# Altium footprint library LEAKCAM.PcbLib: 37 footprints (part 3 of 3)
Each footprint in its own frame and in the unit in brackets; x right, y up, seen from the top. Pads: shape width x height; smd on the part's side, far side on the other; paste and mask are expansions set on the pad; w line width, h text height; cw(c..) or ccw(c..) is an arc to the next point about the centre after c.
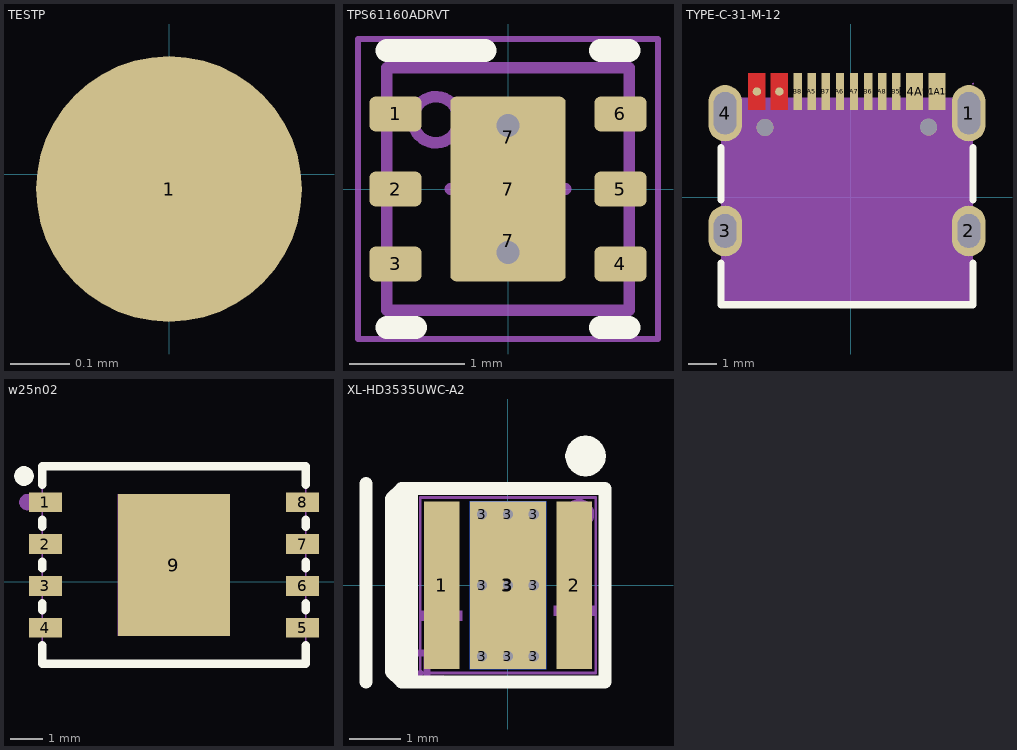
[diagram p2: the footprints below, top view; thin cyan lines are the x and y axes]

## TESTP [mm]
pads (1):
  round 0.45 smd mask+0: 1(0,-0.025)

## TPS61160ADRVT [mm]
pads (9):
  rrect33% 0.45x0.3 smd: 1(-0.975,0.65) 2(-0.975,0) 3(-0.975,-0.65) 4(0.975,-0.65) 5(0.975,0) 6(0.975,0.65)
  rrect50% 1x0.7 on Top Paste: 7(0,-0.45) 7(0,0.45)
  rrect10% 1x1.6 smd paste-0.5: 7(0,0)
via 0,0.55 diameter 0.35 hole 0.2
via 0,-0.55 diameter 0.35 hole 0.2
Top Overlay:
  lines w0.2: -1.05,-1.2 -0.8,-1.2 ; -1.05,1.2 -0.2,1.2 ; 0.8,-1.2 1.05,-1.2 ; 0.8,1.2 1.05,1.2
Top 3D Body:
  circle w0.1: c-0.625,0.6 r0.2
  lines w0.1: -1.05,-1.05 1.05,-1.05 1.05,1.05 -1.05,1.05 -1.05,-1.05
Mechanical 15:
  lines w0.05: -1.3,-1.3 1.3,-1.3 1.3,1.3 -1.3,1.3 -1.3,-1.3
  lines w0.1: -0.5,0 0.5,0 ; 0,-0.5 0,0.5
3D body "TPS61160ADRVT.step": height 0.81, standoff 0, extent -0.966,-0.994 1.054,1.006

## TYPE-C-31-M-12 [mil]
pads (18):
  oval 47.2x78.7 hole 31.5 slot 59.1 at 90 deg paste-99999 mask+2: 1(165.1,117.7) 4(-175.5,117.7)
  oval 47.2x70.9 hole 31.5 slot 47.2 at 90 deg paste-99999 mask+2: 2(165.1,-46.9) 3(-175.5,-46.9)
  round 11.8 smd: A1B12(-131.2,148) A4B9(-99.7,148)
  rect 11.8x51.2 smd paste-3937 mask+2: A5(-54.4,148) A6(-15,148) A7(4.6,148) A8(44,148) B5(63.7,148) B6(24.3,148) B7(-34.7,148) B8(-74.1,148)
  rect 23.6x51.2 smd paste-3937 mask+2: B1A12(120.8,148) B4A9(89.3,148)
  round 23.62 hole 23.62 unplated: HOLE(-119.73,97.79) HOLE(108.92,98.2)
Top Layer:
  region: -119.4,122.4 -119.4,173.6 -131.2,173.6 -131.2,173.5 -143,173.5 -143,122.4 -131.2,122.4
  region: -87.9,122.4 -87.9,173.5 -99.7,173.5 -111.5,173.5 -111.5,122.4 -99.7,122.4
Top Overlay:
  lines w10: -181.1,-91.7 -181.1,-150 170.8,-150 170.8,-91.7 ; -181.1,-3.6 -181.1,69.7 ; 170.8,-3.6 170.8,69.8
Top Paste:
  drawing of 16 lines, arcs and shapes, not listed
Mechanical 9:
  region: -181.2,-150 -181.2,139.4 170.8,139.4 170.8,-150
Mechanical 11:
  region: 172.2,159.1 171.8,158.2 171,157.9 170.1,158.2 169.8,159.1 170.1,159.9 171,160.2 171.8,159.9
Mechanical 12:
  region: -181.4,-31.1 -169.6,-31.1 -169.6,-62.6 -181.4,-62.6
  region: 159.2,-31.1 171,-31.1 171,-62.6 159.2,-62.6
  region: 159.2,139.4 171,139.4 171,96.1 159.2,96.1
  region: -181.4,139.4 -169.6,139.4 -169.6,96.1 -181.4,96.1
  region: 59.8,159.1 67.6,159.1 67.6,131.5 59.8,131.5
  region: 40.1,159.1 47.9,159.1 47.9,131.5 40.1,131.5
  region: 20.4,159.1 28.3,159.1 28.3,131.5 20.4,131.5
  region: 0.7,159.1 8.6,159.1 8.6,131.5 0.7,131.5
  region: -19,159.1 -11.1,159.1 -11.1,131.5 -19,131.5
  region: -38.7,159.1 -30.8,159.1 -30.8,131.5 -38.7,131.5
  region: -58.3,159.1 -50.5,159.1 -50.5,131.5 -58.3,131.5
  region: -78,159.1 -70.2,159.1 -70.2,131.5 -78,131.5
  region: -139.1,159.1 -123.3,159.1 -123.3,131.5 -139.1,131.5
  region: -107.6,159.1 -91.8,159.1 -91.8,131.5 -107.6,131.5
  region: 81.4,159.1 97.2,159.1 97.2,131.5 81.4,131.5
3D body "TYPE-C-31-M-12.step": height 127.99, standoff -33.46, extent -180.98,-147.36 170.98,163.66

## w25n02 [mil]
pads (9):
  rect 39.4x23.6 smd paste+0 mask+2: 1(-417.1,95) 2(-417.1,45) 3(-417.1,-5) 4(-417.1,-55) 5(-110,-55) 6(-110,-5) 7(-110,45) 8(-110,95)
  rect 133.9x169.3 smd paste-12 mask-2: 9(-263.6,20)
Top Overlay:
  lines w10: -421,-75.9 -421,-98.1 -106.1,-98.1 -106.1,-75.9 ; -421,-34.1 -421,-25.9 ; -421,15.9 -421,24.1 ; -421,65.9 -421,74.1 ; -421,115.9 -421,138.1 -108,138.1 ; -106.1,-34.1 -106.1,-25.9 ; -106.1,15.9 -106.1,24.1 ; -106.1,65.9 -106.1,74.1 ; -106.1,115.9 -106.1,138.1
  lines w11.8: -448.6,126.3 -448.2,128.3 -447.2,130.1 -445.6,131.4 -443.7,132.1 -441.7,132.1 -439.7,131.4 -438.2,130.1 -437.1,128.3 -436.8,126.3 -437.1,124.3 -438.2,122.5 -439.7,121.2 -441.7,120.5 -443.7,120.5 -445.6,121.2 -447.2,122.5 -448.2,124.3 -448.6,126.3
Mechanical 2:
  lines w10: -443.6,95 -443.2,96.9 -442.1,98.5 -440.5,99.6 -438.6,100 -436.6,99.6 -435,98.5 -433.9,96.9 -433.6,95 -433.9,93.1 -435,91.5 -436.6,90.4 -438.6,90 -440.5,90.4 -442.1,91.5 -443.2,93.1 -443.6,95
Mechanical 6:
  lines w2: -421,-98.1 -106.1,-98.1 -106.1,138.1 -421,138.1 -421,-98.1
Mechanical 8:
  region: -418.7,138.1 -419.1,136.8 -420.1,136 -421.4,135.8 -422.6,136.3 -423.3,137.5 -423.3,138.8 -422.6,139.9 -421.4,140.5 -420.1,140.3 -419.1,139.4
Mechanical 9:
  region: -330.5,-64.6 -330.5,104.7 -196.6,104.7 -196.6,-64.6
  region: -421,-12.9 -421,2.9 -401.4,2.9 -401.4,-12.9
  region: -421,37.1 -421,52.9 -401.4,52.9 -401.4,37.1
  region: -421,87.1 -421,102.9 -401.4,102.9 -401.4,87.1
  region: -421,-62.9 -421,-47.1 -401.4,-47.1 -401.4,-62.9
  region: -106.1,102.9 -106.1,87.1 -125.8,87.1 -125.8,102.9
  region: -106.1,-47.1 -106.1,-62.9 -125.8,-62.9 -125.8,-47.1
  region: -106.1,2.9 -106.1,-12.9 -125.8,-12.9 -125.8,2.9
  region: -106.1,52.9 -106.1,37.1 -125.8,37.1 -125.8,52.9
3D body "w25n02.step": height 28.78, standoff -0.79, extent -422.87,-98.11 -107.13,138.11

## XL-HD3535UWC-A2 [mm]
pads (13):
  rect 0.701x3.299 smd: 1(-1.298,0) 2(1.3,0)
  round 0.35 hole 0.2: 3(-0.508,-1.397) 3(-0.508,0) 3(-0.508,1.397) 3(0,-1.397) 3(0,0) 3(0,1.397) 3(0.508,-1.397) 3(0.508,0) 3(0.508,1.397)
  rect 1.501x3.299 smd: 3(0,0)
  rect 1.501x3.299 smd far side: 3(0,0)
Top Overlay:
  region: -1.895,1.9 -2.093,1.9 -2.294,1.699 -2.294,-1.6 -2.294,-1.699 -2.093,-1.9 -1.895,-1.9
  lines w0.254: -2.794,-1.9 -2.794,1.999 ; -1.895,-1.9 -2.093,-1.9 -2.294,-1.699 -2.294,1.699 -2.093,1.9 -1.895,1.9 ; -1.9,-1.905 -1.9,1.905 1.91,1.905 1.91,-1.905 -1.9,-1.905
  lines w0.399: 1.326,2.54 1.336,2.479 1.364,2.423 1.407,2.377 1.463,2.349 1.524,2.339 1.587,2.349 1.643,2.377 1.687,2.423 1.714,2.479 1.725,2.54 1.714,2.601 1.687,2.657 1.643,2.703 1.587,2.73 1.524,2.741 1.463,2.73 1.407,2.703 1.364,2.657 1.336,2.601 1.326,2.54
Mechanical 2:
  region: 1.702,-0.399 1.702,-0.599 0.902,-0.599 0.902,-0.399
  region: 1.402,-0.899 1.201,-0.899 1.201,-0.099 1.402,-0.099
  region: -0.899,-0.5 -0.899,-0.701 -1.699,-0.701 -1.699,-0.5
  region: -1.524,-1.778 -1.524,-1.27 -1.651,-1.27 -1.651,-1.778
  region: -1.651,-1.27 -1.778,-1.27 -1.778,-1.397 -1.651,-1.397
  region: -1.905,-1.778 -1.27,-1.778 -1.27,-1.905 -1.905,-1.905
  lines w0.3: 1.247,1.397 1.257,1.346 1.283,1.3 1.323,1.267 1.372,1.25 1.425,1.25 1.473,1.267 1.514,1.3 1.539,1.346 1.547,1.397 1.539,1.448 1.514,1.494 1.473,1.527 1.425,1.544 1.372,1.544 1.323,1.527 1.283,1.494 1.257,1.448 1.247,1.397
Mechanical 6:
  lines w0.051: -1.725,-1.725 -1.725,1.725 1.727,1.725 1.727,-1.725 -1.725,-1.725
Mechanical 8:
  region: -1.664,-1.725 -1.674,-1.758 -1.699,-1.781 -1.732,-1.783 -1.763,-1.77 -1.781,-1.742 -1.781,-1.707 -1.763,-1.679 -1.732,-1.666 -1.699,-1.671 -1.674,-1.692
Mechanical 9:
  region: -1.549,1.626 -1.049,1.626 -1.049,0.3 -1.308,0 -1.049,-0.3 -1.049,-1.626 -1.549,-1.626
  region: -0.65,1.626 0.65,1.626 0.65,-1.626 -0.65,-1.626
  region: 1.052,1.626 1.552,1.626 1.552,-1.626 1.052,-1.626
3D body "XL-HD3535UWC-A2.step": height 2, standoff -0.01, extent -1.725,-1.726 1.725,1.725